# EAGLE library part 1462037-4 (library Relays)
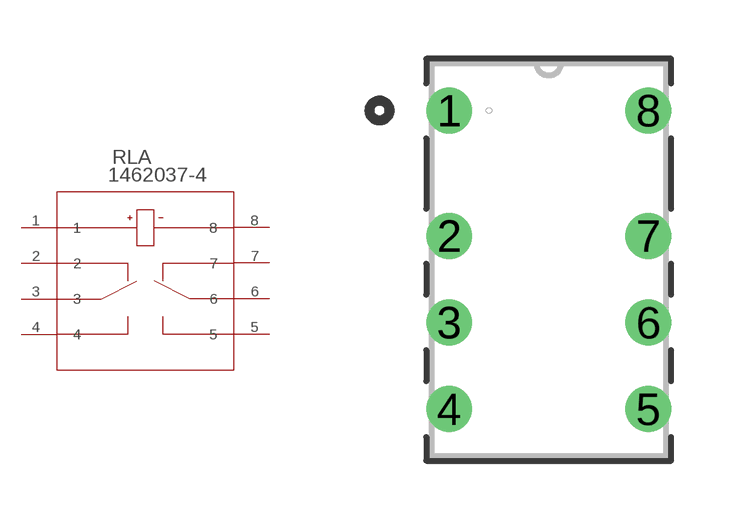
[diagram p42: symbol with the pads of RELAY8_THTSTD; footprint RELAY8_THTSTD]

Designator prefix RLA

## 1462037-4 (BUILT_BY: EMA_UL_Team; CATEGORY: Signal Relays; CONTACT_ARRANGEMENT: 2 Form C (CO); COPYRIGHT: Copyright (C) 2016 Accelerated Designs. All rights reserved; DESCRIPTION: IM01TS=IM RELAY 140 MW 3 V; MANUFACTURER_PART_NUMBER: 1462037-4; MAXIMUM_SWITCHING_CURRENT: -; MAXIMUM_SWITCHING_VOLTAGE: -; PART_STATUS: active; PRODUCT_TYPE: Relay; RELAY_TYPE: IM Relay; SERIES: Axicom IM; TE_PART_NUMBER: IM01TS (1462037-4); VENDOR: TE Connectivity)  [RELAY8_THTSTD]
1  1  pas
2  2  pas
3  3  pas
4  4  pas
5  5  pas
6  6  pas
7  7  pas
8  8  pas

## Footprint RELAY8_THTSTD (pad centres in mm)
drill 0.66 pad 1.168: 1 -5.08,7.62; 2 -5.08,4.42; 3 -5.08,2.21; 4 -5.08,0; 5 0,0; 6 0,2.21; 7 0,4.42; 8 0,7.62